# Altium schematic symbol library IRF.SchLib: 10 symbols
Pins are listed as number, name and electrical type; pins without a type are passive.

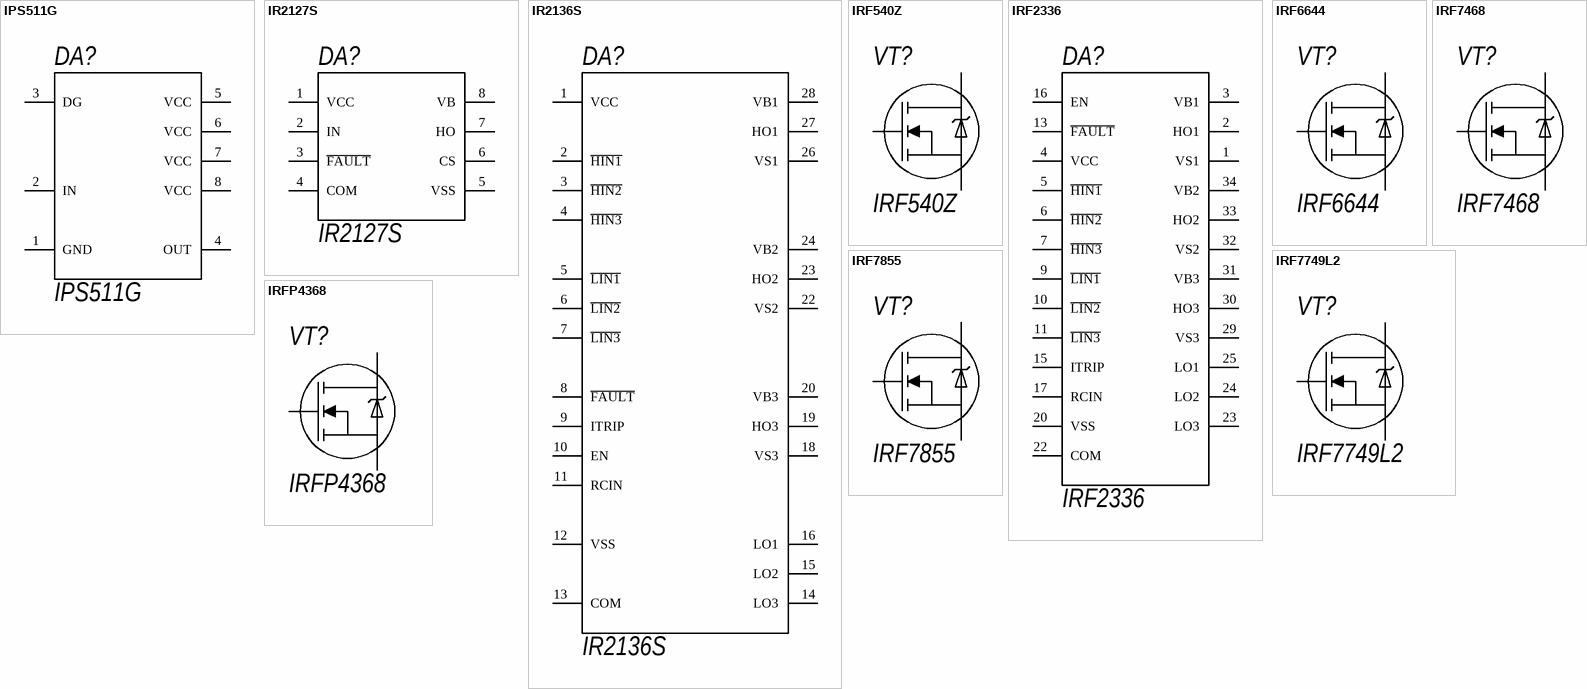
[diagram p0: symbols IPS511G to IRFP4368]

## IPS511G
designator DA?
HEXFET Power MOSFET; LastRevisionDate: 07.12.2010; Name: IPS511G; OutComment: IPS511G; PackageDescription: SOJ-8; Publisher: IMTP FEB RAS
footprint SOJ-8
pins: 1 GND, 2 IN, 3 DG, 4 OUT, 5 VCC, 6 VCC, 7 VCC, 8 VCC

## IR2127S
designator DA?
HIGH VOLTAGE 3 PHASE GATE DRIVER IC; LastRevisionDate: 07.12.2010; Name: IR2127S; OutComment: IR2127S; PackageDescription: MLPQ41; Publisher: IMTP FEB RAS
footprint SOJ-8
pins: 1 VCC, 2 IN, 3 ~{FAULT}, 4 COM, 5 VSS, 6 CS, 7 HO, 8 VB

## IR2136S
designator DA?
HIGH VOLTAGE 3 PHASE GATE DRIVER IC; LastRevisionDate: 07.12.2010; Name: IR2136S; OutComment: IR2136S; PackageDescription: TSOP; Publisher: IMTP FEB RAS
pins: 1 VCC, 2 ~{HIN1}, 3 ~{HIN2}, 4 ~{HIN3}, 5 ~{LIN1}, 6 ~{LIN2}, 7 ~{LIN3}, 8 ~{FAULT}, 9 ITRIP, 10 EN, 11 RCIN, 12 VSS, 13 COM, 14 LO3, 15 LO2, 16 LO1, 18 VS3, 19 HO3, 20 VB3, 22 VS2, 23 HO2, 24 VB2, 26 VS1, 27 HO1, 28 VB1

## IRF540Z
designator VT?
HEXFET Power MOSFET; LastRevisionDate: 08.07.2010; Name: IRF540Z; OutComment: IRF540Z; PackageDescription: SOJ-8; Publisher: IMTP FEB RAS
footprint TO-220
pins: 1 G, 2 D, 3 S

## IRF2336
designator DA?
HIGH VOLTAGE 3 PHASE GATE DRIVER IC; LastRevisionDate: 07.12.2010; Name: IRF2336; OutComment: IRF2336; PackageDescription: MLPQ41; Publisher: IMTP FEB RAS
footprint QFN50P700X700-40VL (QFN, 40-Leads, Body 7x7mm, Pitch 0.5mm, IPC High Density)
pins: 1 VS1, 2 HO1, 3 VB1, 4 VCC, 5 ~{HIN1}, 6 ~{HIN2}, 7 ~{HIN3}, 9 ~{LIN1}, 10 ~{LIN2}, 11 ~{LIN3}, 13 ~{FAULT}, 15 ITRIP, 16 EN, 17 RCIN, 20 VSS, 22 COM, 23 LO3, 24 LO2, 25 LO1, 29 VS3, 30 HO3, 31 VB3, 32 VS2, 33 HO2, 34 VB2

## IRF6644
designator VT?
HEXFET Power MOSFET; LastRevisionDate: 08.07.2010; Name: IRF6644; OutComment: IRF6644; PackageDescription: D-FET; Publisher: IMTP FEB RAS
footprint D-FET
pins: 1 G, 2 D, 3 S

## IRF7468
designator VT?
HEXFET Power MOSFET; LastRevisionDate: 08.07.2010; Name: IRF7468; OutComment: IRF7468; PackageDescription: SOJ-8; Publisher: IMTP FEB RAS
footprint SOJ-8
pins: 1 S, 2 S, 3 S, 4 G, 5 D, 6 D, 7 D, 8 D

## IRF7749L2
designator VT?
HEXFET Power MOSFET; LastRevisionDate: 08.07.2010; Name: IRF7749L2; OutComment: IRF7749L2; PackageDescription: D-FET; Publisher: IMTP FEB RAS
footprint D-FET L8
pins: 1 G, 2 D, 3 S

## IRF7855
designator VT?
HEXFET Power MOSFET; LastRevisionDate: 08.07.2010; Name: IRF7855; OutComment: IRF7855; PackageDescription: SOJ-8; Publisher: IMTP FEB RAS
footprint SOJ-8
pins: 1 S, 2 S, 3 S, 4 G, 5 D, 6 D, 7 D, 8 D

## IRFP4368
designator VT?
HEXFET Power MOSFET; LastRevisionDate: 11.06.2010; Name: IRFP4368; OutComment: IRFP4368; PackageDescription: TO-247AC; Publisher: IMTP FEB RAS
footprint TO-247AC (SIP with Mounting Hole; 3 Leads; Body 20 x 15.6 x 5 mm (typ); Pitch 5.45 mm)
pins: 1 IN, 2 Vbb, 3 S